# Altium footprint library LF.Electronics.PcbLib: 14 footprints
Each footprint in its own frame and in the unit in brackets; x right, y up, seen from the top. Pads: shape width x height; smd on the part's side, far side on the other; paste and mask are expansions set on the pad; w line width, h text height; cw(c..) or ccw(c..) is an arc to the next point about the centre after c.
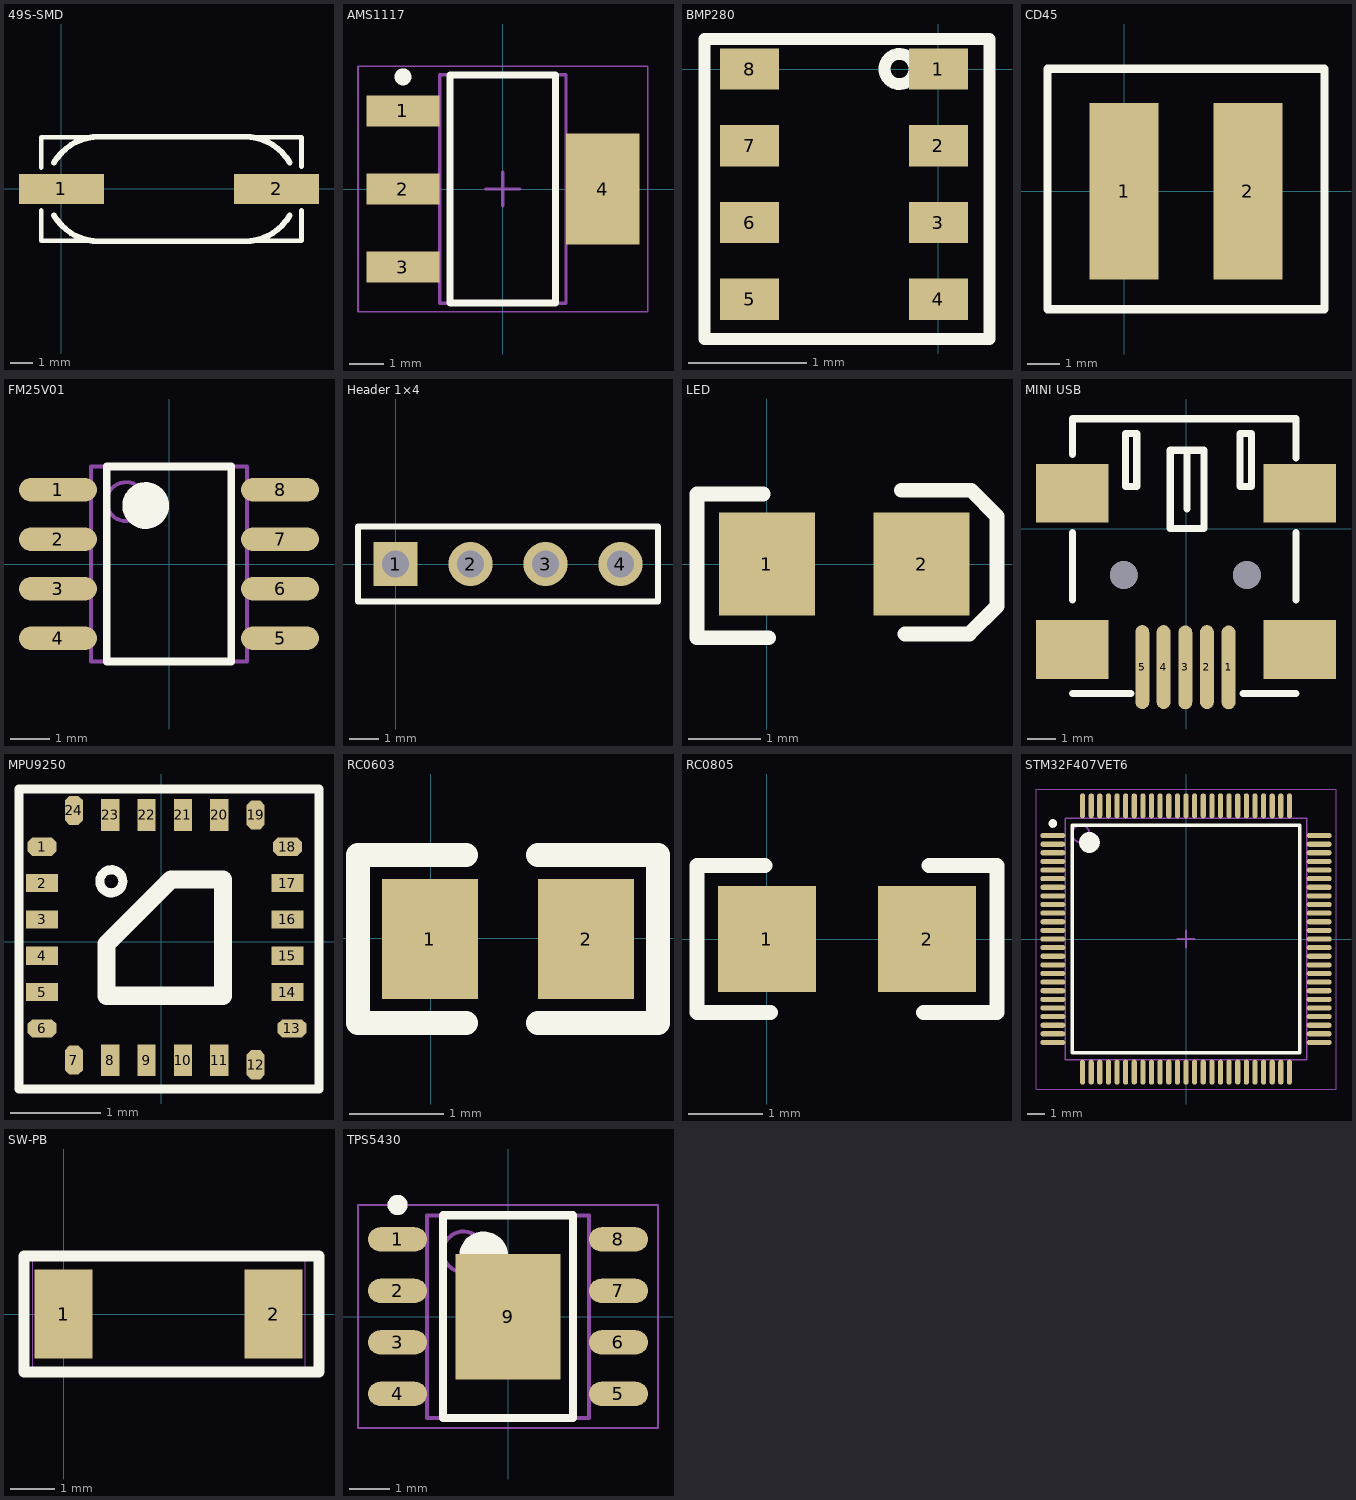
[diagram p0: the footprints below, top view; thin cyan lines are the x and y axes]

## 49S-SMD [mil]
pads (2):
  rect 146x51 smd: 1(0,0) 2(370,0)
Top Overlay:
  lines w8: -35,-37 -35,-89 413,-89 413,-37 ; -35,37 -35,89 413,89 413,38
  lines w10: -12.57,-45.63 ccw(c65,0) 65,-90 315,-90 ccw(c315,0) 392.57,-45.63 ; -12.57,45.63 cw(c65,0) 65,90 ; 55,90 315,90 cw(c315,0) 392.57,45.63

## AMS1117 [mm] "SOT223, 4-Leads, Body 6.51x7.00mm (avg), Pitch 2.29mm, IPC Medium Density"
height 1.8
pads (4):
  rect 2.15x0.9 smd: 1(-2.93,2.29) 2(-2.93,0) 3(-2.93,-2.29)
  rect 2.15x3.25 smd: 4(2.93,0)
Top Overlay:
  circle w0.25: c-2.93,3.29 r0.125
  lines w0.2: -1.55,-3.35 1.55,-3.35 1.55,3.35 -1.55,3.35 -1.55,-3.35
Mechanical 13:
  lines w0.1: -1.855,-3.355 1.855,-3.355 1.855,3.355 -1.855,3.355 -1.855,-3.355
Mechanical 15:
  lines w0.05: -4.25,-3.6 4.25,-3.6 4.25,3.6 -4.25,3.6 -4.25,-3.6
  lines w0.1: -0.5,0 0.5,0 ; 0,-0.5 0,0.5
3D body: height 1.8, standoff 0.64, extent -1.855,-3.355 1.855,3.355

## BMP280 [mm]
pads (8):
  rect 0.5x0.35 smd: 1(0,0) 2(0,-0.65) 3(0,-1.3) 4(0,-1.95) 5(-1.6,-1.95) 6(-1.6,-1.3) 7(-1.6,-0.65) 8(-1.6,0)
Top Overlay:
  circle w0.1: c-0.33,0 r0.127
  lines w0.1: -1.981,-2.286 0.432,-2.286 0.432,-1.397 0.432,-0.635 0.432,-0.159 0.432,0.254 -1.981,0.254 -1.981,-2.286

## CD45 [mm]
pads (2):
  rect 2.15x5.5 smd: 1(0,0) 2(3.85,0)
Top Overlay:
  lines w0.254: -2.393,-3.683 -2.393,3.81 6.243,3.81 6.243,-3.683 -2.393,-3.683

## FM25V01 [mm] "SOIC, 8-Leads, Body 4.90x3.90mm, Pitch 1.27mm, IPC Medium Density"
height 1.75
pads (8):
  oval 2x0.6 smd: 1(-2.85,1.905) 2(-2.85,0.635) 3(-2.85,-0.635) 4(-2.85,-1.905) 5(2.85,-1.905) 6(2.85,-0.635) 7(2.85,0.635) 8(2.85,1.905)
Top Overlay:
  circle w0.6: c-0.6,1.5 r0.3
  lines w0.2: -1.6,-2.5 1.6,-2.5 1.6,2.5 -1.6,2.5 -1.6,-2.5
Mechanical 13:
  circle w0.1: c-1.1,1.6 r0.5
  lines w0.1: -2,-2.5 2,-2.5 2,2.5 -2,2.5 -2,-2.5
3D body: height 1.75, standoff 0.1, extent -2,-2.5 2,2.5

## Header 1×4 [mm]
pads (4):
  rect 1.5x1.5 hole 0.9: 1(0,0)
  round 1.5 hole 0.9: 2(2.54,0) 3(5.08,0) 4(7.62,0)
Top Overlay:
  lines w0.2: -1.27,-1.27 -1.27,1.27 8.89,1.27 8.89,-1.27 -1.27,-1.27

## LED [mil]
pads (2):
  rect 52x56 smd: 1(0,0) 2(84,0)
Top Overlay:
  lines w8: -2,38 -38,38 -38,-40 1,-40 ; 73,40 111,40 125,26 125,-23 110,-38 75,-38

## MINI USB [mm]
pads (11):
  oval 0.5x3 smd: 1(1.524,-4.953) 2(0.749,-4.944) 3(-0.025,-4.953) 4(-0.8,-4.944) 5(-1.562,-4.944)
  rect 2.6x2.1 smd: ""(-4.064,-4.318) ""(-4.064,1.27) ""(4.064,-4.318) ""(4.064,1.27)
  round 1 hole 1: ""(-2.225,-1.654) ""(2.175,-1.654)
Top Overlay:
  lines w0.254: -4.064,-2.54 -4.064,-0.127 ; -4.062,-5.891 -1.962,-5.891 ; -4.062,2.667 -4.062,3.937 3.938,3.937 3.938,2.54 ; 0.038,0.709 0.038,2.809 ; 2.038,-5.891 3.938,-5.891 ; 3.937,-2.54 3.937,-0.127 ; -2.162,1.509 -2.162,3.409 -1.762,3.409 -1.762,1.509 -2.162,1.509 ; -0.562,0.009 0.638,0.009 0.638,2.809 -0.562,2.809 -0.562,0.009 ; 1.938,1.509 1.938,3.409 2.338,3.409 2.338,1.509 1.938,1.509

## MPU9250 [mm]
pads (24):
  oct 0.32x0.2 smd: 1(-1.313,1.049) 6(-1.313,-0.951) 13(1.437,-0.951) 18(1.387,1.049)
  rect 0.35x0.2 smd: 2(-1.313,0.649) 3(-1.313,0.249) 4(-1.313,-0.151) 5(-1.313,-0.551) 14(1.387,-0.551) 15(1.387,-0.151) 16(1.387,0.249) 17(1.387,0.649)
  oct 0.2x0.32 smd: 7(-0.963,-1.301) 12(1.037,-1.351) 19(1.037,1.399) 24(-0.963,1.449)
  rect 0.2x0.35 smd: 8(-0.563,-1.301) 9(-0.163,-1.301) 10(0.237,-1.301) 11(0.637,-1.301) 20(0.637,1.399) 21(0.237,1.399) 22(-0.163,1.399) 23(-0.563,1.399)
Top Overlay:
  circle w0.1: c-0.551,0.668 r0.127
  lines w0.1: -1.567,-1.618 1.735,-1.618 1.735,1.684 -1.567,1.684 -1.567,-1.618
  lines w0.2: -0.603,-0.591 -0.603,-0.021 0.107,0.689 0.677,0.689 0.677,-0.591 -0.603,-0.591

## RC0603 [mil]
pads (2):
  rect 40x50 smd: 1(-0.41,-0.3) 2(64.59,-0.3)
Top Overlay:
  lines w10: 14.59,-35.3 -30.41,-35.3 -30.41,34.7 14.59,34.7 ; 44.59,-35.3 94.59,-35.3 94.59,34.7 44.59,34.7

## RC0805 [mil]
pads (2):
  rect 52x56 smd: 1(0,0) 2(85,0)
Top Overlay:
  lines w8: -1,39 -37,39 -37,-39 2,-39 ; 83,-39 122,-39 122,39 86,39

## STM32F407VET6 [mm] "TSQFP, 100-Leads, Body 14.00x14.00mm, Pitch 0.50mm, IPC Medium Density"
height 1.6
pads (100):
  oval 1.45x0.3 smd: 1(-7.725,6) 2(-7.725,5.5) 3(-7.725,5) 4(-7.725,4.5) 5(-7.725,4) 6(-7.725,3.5) 7(-7.725,3) 8(-7.725,2.5) 9(-7.725,2) 10(-7.725,1.5) 11(-7.725,1) 12(-7.725,0.5) 13(-7.725,0) 14(-7.725,-0.5) 15(-7.725,-1) 16(-7.725,-1.5) 17(-7.725,-2) 18(-7.725,-2.5) 19(-7.725,-3) 20(-7.725,-3.5) 21(-7.725,-4) 22(-7.725,-4.5) 23(-7.725,-5) 24(-7.725,-5.5) 25(-7.725,-6) 51(7.725,-6) 52(7.725,-5.5) 53(7.725,-5) 54(7.725,-4.5) 55(7.725,-4) 56(7.725,-3.5) 57(7.725,-3) 58(7.725,-2.5) 59(7.725,-2) 60(7.725,-1.5) 61(7.725,-1) 62(7.725,-0.5) 63(7.725,0) 64(7.725,0.5) 65(7.725,1) 66(7.725,1.5) 67(7.725,2) 68(7.725,2.5) 69(7.725,3) 70(7.725,3.5) 71(7.725,4) 72(7.725,4.5) 73(7.725,5) 74(7.725,5.5) 75(7.725,6)
  oval 0.3x1.45 smd: 26(-6,-7.725) 27(-5.5,-7.725) 28(-5,-7.725) 29(-4.5,-7.725) 30(-4,-7.725) 31(-3.5,-7.725) 32(-3,-7.725) 33(-2.5,-7.725) 34(-2,-7.725) 35(-1.5,-7.725) 36(-1,-7.725) 37(-0.5,-7.725) 38(0,-7.725) 39(0.5,-7.725) 40(1,-7.725) 41(1.5,-7.725) 42(2,-7.725) 43(2.5,-7.725) 44(3,-7.725) 45(3.5,-7.725) 46(4,-7.725) 47(4.5,-7.725) 48(5,-7.725) 49(5.5,-7.725) 50(6,-7.725) 76(6,7.725) 77(5.5,7.725) 78(5,7.725) 79(4.5,7.725) 80(4,7.725) 81(3.5,7.725) 82(3,7.725) 83(2.5,7.725) 84(2,7.725) 85(1.5,7.725) 86(1,7.725) 87(0.5,7.725) 88(0,7.725) 89(-0.5,7.725) 90(-1,7.725) 91(-1.5,7.725) 92(-2,7.725) 93(-2.5,7.725) 94(-3,7.725) 95(-3.5,7.725) 96(-4,7.725) 97(-4.5,7.725) 98(-5,7.725) 99(-5.5,7.725) 100(-6,7.725)
Top Overlay:
  circle w0.6: c-5.6,5.6 r0.3
  circle w0.25: c-7.725,6.7 r0.125
  lines w0.2: -6.6,-6.6 6.6,-6.6 6.6,6.6 -6.6,6.6 -6.6,-6.6
Mechanical 13:
  circle w0.1: c-6.1,6.1 r0.5
  lines w0.1: -7,-7 7,-7 7,7 -7,7 -7,-7
Mechanical 15:
  lines w0.05: -8.7,-8.7 8.7,-8.7 8.7,8.7 -8.7,8.7 -8.7,-8.7
  lines w0.1: -0.5,0 0.5,0 ; 0,-0.5 0,0.5
3D body: height 1.6, standoff 0.05, extent -7,-7 7,7

## SW-PB [mm]
pads (2):
  rect 1.3x2 smd paste+0 mask+0.2: 1(0,0) 2(4.7,0)
Top Overlay:
  lines w0.254: -0.888,-1.3 -0.888,1.3 5.716,1.3 5.716,-1.3 -0.888,-1.3
Mechanical 1:
  lines w0.025: -0.695,-1.3 -0.695,1.3 5.405,1.3 5.405,-1.3 -0.695,-1.3
Mechanical 2:
  lines w0.003: -0.695,-1.3 -0.695,1.3 5.405,1.3 5.405,-1.3 -0.695,-1.3

## TPS5430 [mm] "SOIC, 8-Leads, Body 4.90x3.90mm, Pitch 1.27mm, IPC Medium Density"
height 1.7
pads (9):
  oval 1.45x0.6 smd: 1(-2.725,1.905) 2(-2.725,0.635) 3(-2.725,-0.635) 4(-2.725,-1.905) 5(2.725,-1.905) 6(2.725,-0.635) 7(2.725,0.635) 8(2.725,1.905)
  rect 2.6x3.1 smd: 9(0,0)
Top Overlay:
  circle w0.6: c-0.6,1.5 r0.3
  circle w0.25: c-2.725,2.755 r0.125
  lines w0.2: -1.6,-2.5 1.6,-2.5 1.6,2.5 -1.6,2.5 -1.6,-2.5
Mechanical 13:
  circle w0.1: c-1.1,1.6 r0.5
  lines w0.1: -2,-2.5 2,-2.5 2,2.5 -2,2.5 -2,-2.5
Mechanical 15:
  lines w0.05: -3.7,-2.75 3.7,-2.75 3.7,2.75 -3.7,2.75 -3.7,-2.75
  lines w0.1: -0.5,0 0.5,0 ; 0,-0.5 0,0.5
3D body: height 1.7, standoff 0.1, extent -2,-2.5 2,2.5